# Altium schematic symbol library Mux 16Ch 74HC4067 Module.SchLib: 1 symbol
Pins are listed as number, name and electrical type; pins without a type are passive.

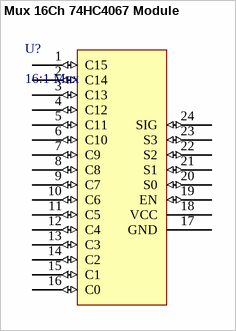
[diagram p0: symbol Mux 16Ch 74HC4067 Module]

## Mux 16Ch 74HC4067 Module
designator U?, comment 16:1 Mux
footprint Mux 16Ch 74HC4067 Module
pins: 1 C15 (io), 2 C14 (io), 3 C13 (io), 4 C12 (io), 5 C11 (io), 6 C10 (io), 7 C9 (io), 8 C8 (io), 9 C7 (io), 10 C6 (io), 11 C5 (io), 12 C4 (io), 13 C3 (io), 14 C2 (io), 15 C1 (io), 16 C0 (io), 17 GND (power), 18 VCC (power), 19 EN (io), 20 S0 (io), 21 S1 (io), 22 S2 (io), 23 S3 (io), 24 SIG (io)